# EAGLE library part ISD1400D (library isd-new)
VOICE RECORDER
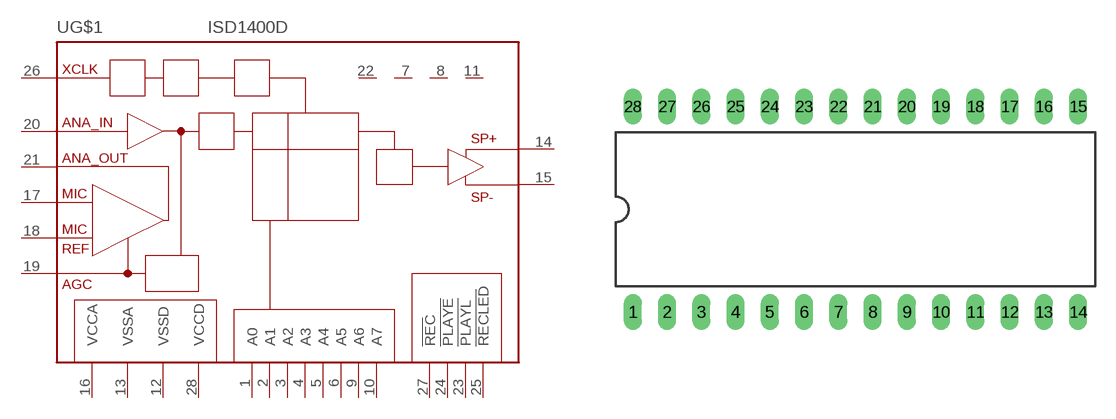
[diagram p0: symbol with the pads of DIL28-6; footprint DIL28-6]

Designator prefix U; gates G$1=ISD1400 G$2=NC-LEFT G$3=NC-LEFT G$4=NC-LEFT G$5=NC-LEFT

## ISD1400D  [DIL28-6]
1  G$1:A0  out
2  G$1:A1  out
3  G$1:A2  out
4  G$1:A3  out
5  G$1:A4  out
6  G$1:A5  out
7  G$2:NC  nc
8  G$3:NC  nc
9  G$1:A6  out
10  G$1:A7  out
11  G$4:NC  nc
12  G$1:VSSD  pwr
13  G$1:VSSA  pwr
14  G$1:SP+  out
15  G$1:SP-  out
16  G$1:VCCA  pwr
17  G$1:MIC  in
18  G$1:MIC_REF  in
19  G$1:AGC  pas
20  G$1:ANA_IN  in
21  G$1:ANA_OUT  out
22  G$5:NC  nc
23  G$1:PLAYL  in
24  G$1:PLAYE  in
25  G$1:RECLED  out
26  G$1:XCLK  in
27  G$1:REC  in
28  G$1:VCCD  pwr

## Footprint DIL28-6 (pad centres in mm)
Dual In Line Package 0.6 inch
drill 0.813 long: 1 -16.51,-7.62; 2 -13.97,-7.62; 3 -11.43,-7.62; 4 -8.89,-7.62; 5 -6.35,-7.62; 6 -3.81,-7.62; 7 -1.27,-7.62; 8 1.27,-7.62; 9 3.81,-7.62; 10 6.35,-7.62; 11 8.89,-7.62; 12 11.43,-7.62; 13 13.97,-7.62; 14 16.51,-7.62; 15 16.51,7.62; 16 13.97,7.62; 17 11.43,7.62; 18 8.89,7.62; 19 6.35,7.62; 20 3.81,7.62; 21 1.27,7.62; 22 -1.27,7.62; 23 -3.81,7.62; 24 -6.35,7.62; 25 -8.89,7.62; 26 -11.43,7.62; 27 -13.97,7.62; 28 -16.51,7.62